# Altium schematic symbol library WP-PFIFUA.SchLib: 5 symbols
Pins are listed as number, name and electrical type; pins without a type are passive.

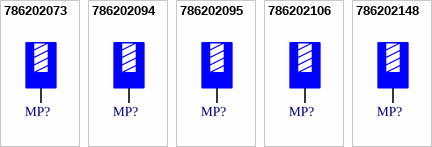
[diagram p0: symbols 786202073 to 786202148]

## 786202073
designator MP?  (value not drawn)
WP-PFIFUA REDCUBE PRESS-FIT ASP Internal thread Full Plain, 7 x 7mm, M3, 130A; Manufacturer: Wurth Elektronik; Thread Length: 3.5mm; Manufacturer Part Number: 786202073; Category: REDCUBE PRESS-FIT; Match Code: WP-PFIFUA; ComponentLink1Description: Website Link; ComponentLink1URL: https://www.we-online.com/redexpert/article/786202073?ad; ComponentLink2Description: Datasheet Link; ComponentLink2URL: https://www.we-online.com/redexpert/spec/786202073?ad; Mount: Press Fit; Operating Temperature Max: 150°C; Operating Temperature Min: -55°C; Packaging: Bulk; Length: 7mm; Width: 7mm; Height: 9mm; Automotive: Yes; Number of Pins: 9; Rated Current: 130A; Thread Size: M3
footprint 786202073
pins: 1

## 786202094
designator MP?  (value not drawn)
WP-PFIFUA REDCUBE PRESS-FIT ASP Internal thread Full Plain, 9 x 9mm, M4, 180A; Manufacturer: Wurth Elektronik; Thread Length: 4mm; Manufacturer Part Number: 786202094; Category: REDCUBE PRESS-FIT; Match Code: WP-PFIFUA; ComponentLink1Description: Website Link; ComponentLink1URL: https://www.we-online.com/redexpert/article/786202094?ad; ComponentLink2Description: Datasheet Link; ComponentLink2URL: https://www.we-online.com/redexpert/spec/786202094?ad; Mount: Press Fit; Operating Temperature Max: 150°C; Operating Temperature Min: -55°C; Packaging: Bulk; Length: 9mm; Width: 9mm; Height: 10mm; Automotive: Yes; Number of Pins: 16; Rated Current: 180A; Thread Size: M4
footprint 786202094
pins: 1

## 786202095
designator MP?  (value not drawn)
WP-PFIFUA REDCUBE PRESS-FIT ASP Internal thread Full Plain, 9 x 9mm, M5, 180A; Manufacturer: Wurth Elektronik; Thread Length: 4mm; Manufacturer Part Number: 786202095; Category: REDCUBE PRESS-FIT; Match Code: WP-PFIFUA; ComponentLink1Description: Website Link; ComponentLink1URL: https://www.we-online.com/redexpert/article/786202095?ad; ComponentLink2Description: Datasheet Link; ComponentLink2URL: https://www.we-online.com/redexpert/spec/786202095?ad; Mount: Press Fit; Operating Temperature Max: 150°C; Operating Temperature Min: -55°C; Packaging: Bulk; Length: 9mm; Width: 9mm; Height: 10mm; Automotive: Yes; Number of Pins: 16; Rated Current: 180A; Thread Size: M5
footprint 786202095
pins: 1

## 786202106
designator MP?  (value not drawn)
WP-PFIFUA REDCUBE PRESS-FIT ASP Internal thread Full Plain, 10 x 10mm, M6, 180A; Manufacturer: Wurth Elektronik; Thread Length: 6mm; Manufacturer Part Number: 786202106; Category: REDCUBE PRESS-FIT; Match Code: WP-PFIFUA; ComponentLink1Description: Website Link; ComponentLink1URL: https://www.we-online.com/redexpert/article/786202106?ad; ComponentLink2Description: Datasheet Link; ComponentLink2URL: https://www.we-online.com/redexpert/spec/786202106?ad; Mount: Press Fit; Operating Temperature Max: 150°C; Operating Temperature Min: -55°C; Packaging: Bulk; Length: 10mm; Width: 10mm; Height: 13.5mm; Automotive: Yes; Number of Pins: 16; Rated Current: 180A; Thread Size: M6
footprint 786202106
pins: 1

## 786202148
designator MP?  (value not drawn)
WP-PFIFUA REDCUBE PRESS-FIT ASP Internal thread Full Plain, 14 x 14mm, M8, 250A; Manufacturer: Wurth Elektronik; Thread Length: 8mm; Manufacturer Part Number: 786202148; Category: REDCUBE PRESS-FIT; Match Code: WP-PFIFUA; ComponentLink1Description: Website Link; ComponentLink1URL: https://www.we-online.com/redexpert/article/786202148?ad; ComponentLink2Description: Datasheet Link; ComponentLink2URL: https://www.we-online.com/redexpert/spec/786202148?ad; Mount: Press Fit; Operating Temperature Max: 150°C; Operating Temperature Min: -55°C; Packaging: Bulk; Length: 14mm; Width: 14mm; Height: 16.5mm; Automotive: Yes; Number of Pins: 16; Rated Current: 250A; Thread Size: M8
footprint 786202148
pins: 1